# Altium integrated library Lattice FPGA XP.IntLib: 280 symbols (part 38 of 55)
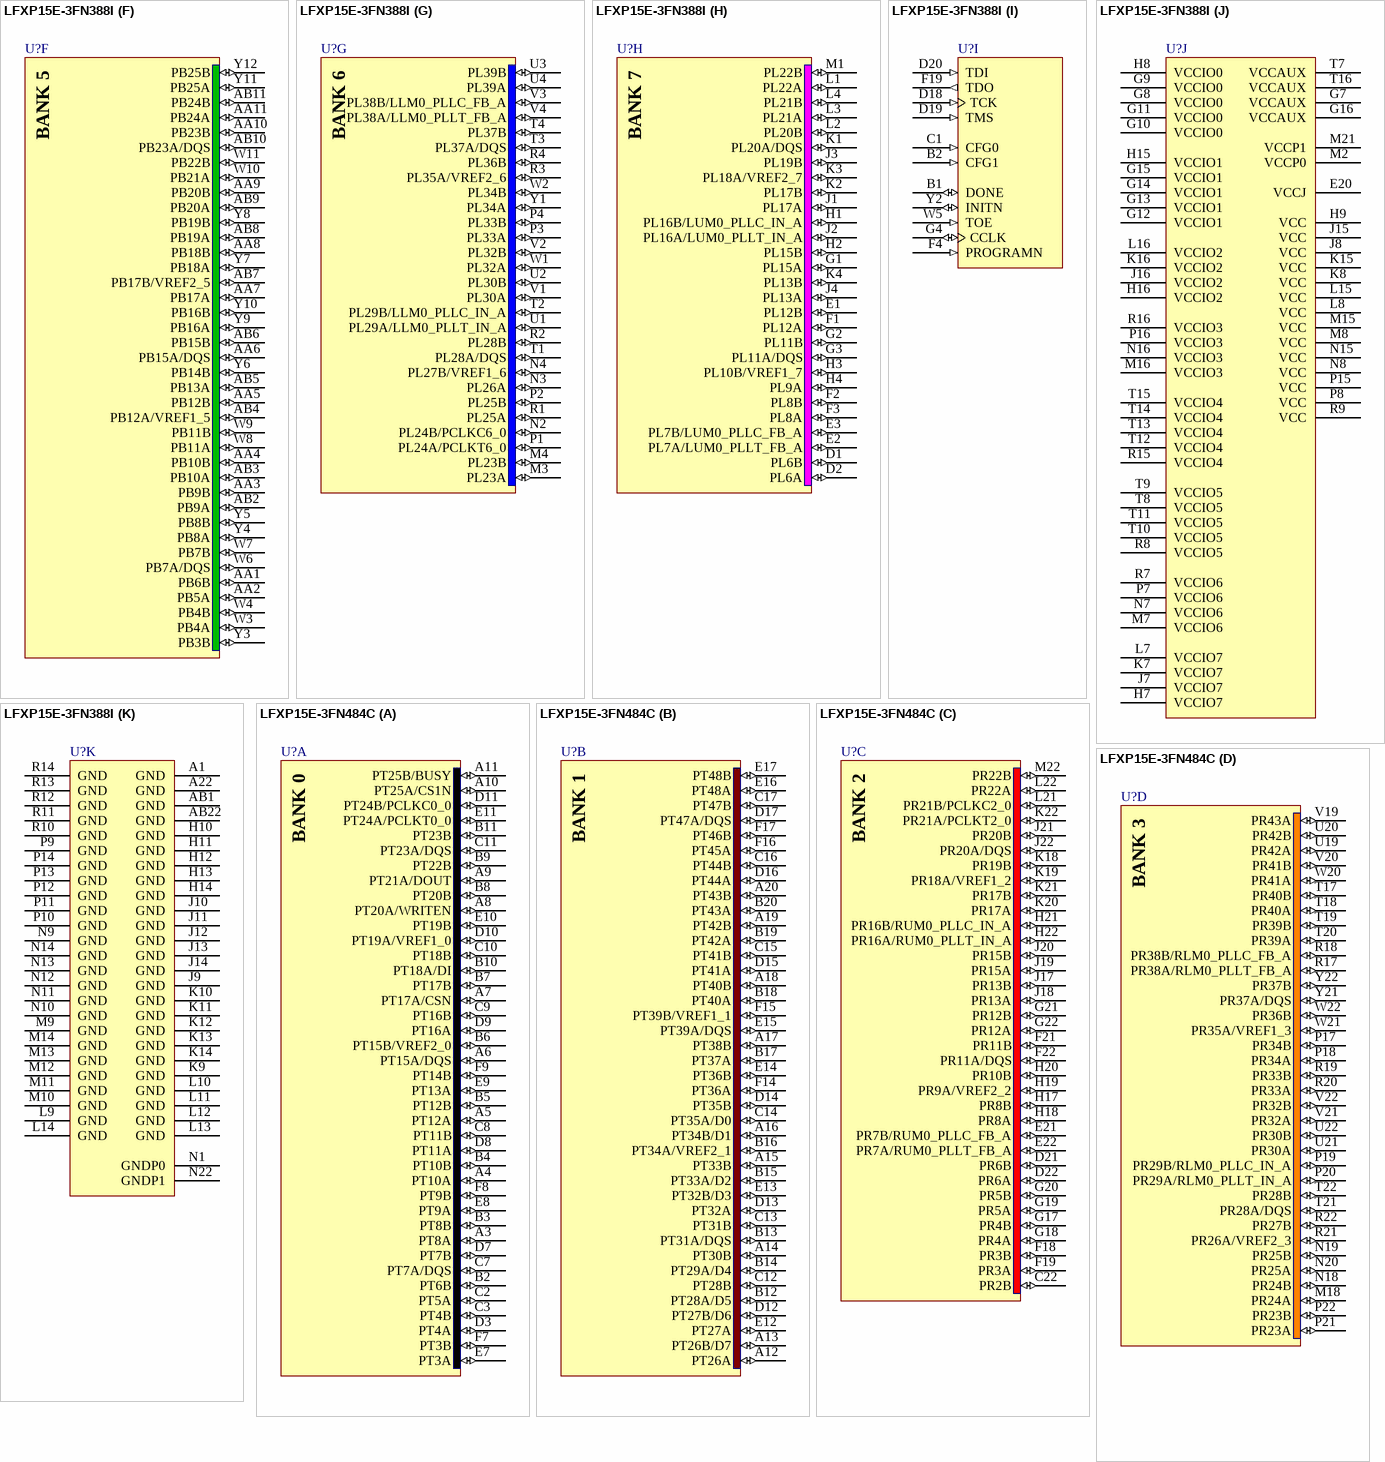
[diagram p371: symbols LFXP15E-3FN388I to LFXP15E-3FN484C]

## LFXP15E-3FN388I
designator U?
XP 1.2V FPGA, 268 I/Os, 15K LUTs, 388-Pin fpBGA, Speed Grade 3, Industrial Grade, Pb-Free; DatasheetVersion: ver05.1, Nov-2007; PackageVersion: ver01.8, Dec-2008; PackageReference: fpBGA388; PackageDescription: 388-Ball Fine Pitch Ball Grid Array (fpBGA388); ComponentLink1Description: Manufacturer URL; ComponentLink1URL: http://www.latticesemi.com/; ComponentLink2Description: Datasheet; ComponentLink2URL: http://www.latticesemi.com/lit/docs/datasheets/fpga/DS1001.pdf; ComponentLink3Description: Package Specification; ComponentLink3URL: http://www.latticesemi.com/lit/docs/package/pkg.pdf
footprint fpBGA388 (BGA, 388-Leads, Body 23x23mm, Pitch 1mm)
part A pins: A2 PT10A (io), A3 PT9B (io), A4 PT12A (io), A5 PT14B (io), A6 PT15B/VREF2_0 (io), A7 PT18A/DI (io), A8 PT19A/VREF1_0 (io), A9 PT20B (io), A10 PT24A/PCLKT0_0 (io), A11 PT24B/PCLKC0_0 (io), B3 PT9A (io), B4 PT10B (io), B5 PT13A (io), B6 PT15A/DQS (io), B7 PT17B (io), B8 PT19B (io), B9 PT23A/DQS (io), B10 PT23B (io), B11 PT25A/CS1N (io), C2 PT7B (io), C3 PT8A (io), C4 PT8B (io), C5 PT12B (io), C6 PT17A/CSN (io), C7 PT18B (io), C8 PT20A/WRITEN (io), C9 PT16A (io), C10 PT16B (io), C11 PT25B/BUSY (io), D3 PT7A/DQS (io), D4 PT4A (io), D5 PT3B (io), D6 PT5A (io), D7 PT6B (io), D8 PT11A (io), D9 PT11B (io), D10 PT21A/DOUT (io), D11 PT22B (io), E4 PT4B (io)
part B pins: A12 PT27A (io), A13 PT28A/D5 (io), A14 PT31A/DQS (io), A15 PT32A (io), A16 PT33A/D2 (io), A17 PT34A/VREF2_1 (io), A18 PT36A (io), A19 PT37A (io), A20 PT39A/DQS (io), A21 PT41A (io), B12 PT26B/D7 (io), B13 PT27B/D6 (io), B14 PT28B (io), B15 PT31B (io), B16 PT32B/D3 (io), B17 PT33B (io), B18 PT34B/D1 (io), B19 PT36B (io), B20 PT38B (io), B21 PT39B/VREF1_1 (io), B22 PT41B (io), C12 PT26A (io), C13 PT35A/D0 (io), C14 PT35B (io), C15 PT45A (io), C16 PT46B (io), C17 PT44B (io), C18 PT44A (io), C19 PT43B (io), C20 PT43A (io), C21 PT42B (io), C22 PT42A (io), D12 PT29A/D4 (io), D13 PT30B (io), D14 PT40A (io), D15 PT40B (io), D16 PT47A/DQS (io), D17 PT47B (io), E19 PT48A (io)
part C pins: D21 PR6A (io), D22 PR6B (io), E21 PR7A/RUM0_PLLT_FB_A (io), E22 PR7B/RUM0_PLLC_FB_A (io), F20 PR10B (io), F21 PR8A (io), F22 PR8B (io), G19 PR12A (io), G20 PR9A/VREF2_2 (io), G21 PR11A/DQS (io), G22 PR11B (io), H19 PR12B (io), H20 PR13A (io), H21 PR16A/RUM0_PLLT_IN_A (io), H22 PR16B/RUM0_PLLC_IN_A (io), J19 PR15A (io), J20 PR13B (io), J21 PR17A (io), J22 PR17B (io), K19 PR15B (io), K20 PR20A/DQS (io), K21 PR21A/PCLKT2_0 (io), K22 PR21B/PCLKC2_0 (io), L19 PR20B (io), L20 PR19B (io), L21 PR18A/VREF1_2 (io), L22 PR22A (io), M22 PR22B (io)
part D pins: M19 PR23A (io), M20 PR23B (io), N19 PR27B (io), N20 PR26A/VREF2_3 (io), N21 PR24A (io), P19 PR33B (io), P20 PR33A (io), P21 PR24B (io), P22 PR25A (io), R19 PR36B (io), R20 PR35A/VREF1_3 (io), R21 PR28B (io), R22 PR25B (io), T19 PR39A (io), T20 PR39B (io), T21 PR29B/RLM0_PLLC_IN_A (io), T22 PR28A/DQS (io), U19 PR38B/RLM0_PLLC_FB_A (io), U20 PR38A/RLM0_PLLT_FB_A (io), U21 PR30B (io), U22 PR29A/RLM0_PLLT_IN_A (io), V19 PR37B (io), V20 PR37A/DQS (io), V21 PR32B (io), V22 PR30A (io), W21 PR34B (io), W22 PR32A (io), Y22 PR34A (io)
part E pins: AA12 PB26B (io), AA13 PB27B/PCLKC4_0 (io), AA14 PB28A (io), AA15 PB31A/DQS (io), AA16 PB32A (io), AA17 PB33B (io), AA18 PB36A/VREF2_4 (io), AA19 PB39A/DQS (io), AA20 PB41B (io), AA21 PB42B (io), AA22 PB43A (io), AB12 PB26A (io), AB13 PB27A/PCLKT4_0 (io), AB14 PB28B (io), AB15 PB31B/VREF1_4 (io), AB16 PB32B (io), AB17 PB35A (io), AB18 PB36B (io), AB19 PB38B (io), AB20 PB41A (io), AB21 PB42A (io), W12 PB29A (io), W13 PB30B (io), W14 PB40A (io), W15 PB40B (io), W16 PB44A (io), W17 PB44B (io), W18 PB47B (io), W19 PB47A/DQS (io), W20 PB48A (io), Y13 PB34A (io), Y14 PB34B (io), Y15 PB45A (io), Y16 PB46B (io), Y17 PB33A (io), Y18 PB35B (io), Y19 PB37A (io), Y20 PB39B (io), Y21 PB43B (io)
part F pins: AA1 PB6B (io), AA2 PB5A (io), AA3 PB9B (io), AA4 PB10B (io), AA5 PB12B (io), AA6 PB15A/DQS (io), AA7 PB17A (io), AA8 PB18B (io), AA9 PB20B (io), AA10 PB23B (io), AA11 PB24A (io), AB2 PB9A (io), AB3 PB10A (io), AB4 PB12A/VREF1_5 (io), AB5 PB13A (io), AB6 PB15B (io), AB7 PB17B/VREF2_5 (io), AB8 PB19A (io), AB9 PB20A (io), AB10 PB23A/DQS (io), AB11 PB24B (io), W3 PB4A (io), W4 PB4B (io), W6 PB7A/DQS (io), W7 PB7B (io), W8 PB11A (io), W9 PB11B (io), W10 PB21A (io), W11 PB22B (io), Y3 PB3B (io), Y4 PB8A (io), Y5 PB8B (io), Y6 PB14B (io), Y7 PB18A (io), Y8 PB19B (io), Y9 PB16A (io), Y10 PB16B (io), Y11 PB25A (io), Y12 PB25B (io)
part G pins: M3 PL23A (io), M4 PL23B (io), N2 PL24B/PCLKC6_0 (io), N3 PL26A (io), N4 PL27B/VREF1_6 (io), P1 PL24A/PCLKT6_0 (io), P2 PL25B (io), P3 PL33A (io), P4 PL33B (io), R1 PL25A (io), R2 PL28B (io), R3 PL35A/VREF2_6 (io), R4 PL36B (io), T1 PL28A/DQS (io), T2 PL29B/LLM0_PLLC_IN_A (io), T3 PL37A/DQS (io), T4 PL37B (io), U1 PL29A/LLM0_PLLT_IN_A (io), U2 PL30B (io), U3 PL39B (io), U4 PL39A (io), V1 PL30A (io), V2 PL32B (io), V3 PL38B/LLM0_PLLC_FB_A (io), V4 PL38A/LLM0_PLLT_FB_A (io), W1 PL32A (io), W2 PL34B (io), Y1 PL34A (io)
part H pins: D1 PL6B (io), D2 PL6A (io), E1 PL12B (io), E2 PL7A/LUM0_PLLT_FB_A (io), E3 PL7B/LUM0_PLLC_FB_A (io), F1 PL12A (io), F2 PL8B (io), F3 PL8A (io), G1 PL15A (io), G2 PL11B (io), G3 PL11A/DQS (io), H1 PL16B/LUM0_PLLC_IN_A (io), H2 PL15B (io), H3 PL10B/VREF1_7 (io), H4 PL9A (io), J1 PL17A (io), J2 PL16A/LUM0_PLLT_IN_A (io), J3 PL19B (io), J4 PL13A (io), K1 PL20A/DQS (io), K2 PL17B (io), K3 PL18A/VREF2_7 (io), K4 PL13B (io), L1 PL22A (io), L2 PL20B (io), L3 PL21A (io), L4 PL21B (io), M1 PL22B (io)
part I pins: B1 DONE (io), B2 CFG1 (in), C1 CFG0 (in), D18 TCK (in), D19 TMS (in), D20 TDI (in), F4 PROGRAMN (in), F19 TDO (out), G4 CCLK (io), W5 TOE (in), Y2 INITN (io)
part J pins: E20 VCCJ (power), G7 VCCAUX (power), G8 VCCIO0 (power), G9 VCCIO0 (power), G10 VCCIO0 (power), G11 VCCIO0 (power), G12 VCCIO1 (power), G13 VCCIO1 (power), G14 VCCIO1 (power), G15 VCCIO1 (power), G16 VCCAUX (power), H7 VCCIO7 (power), H8 VCCIO0 (power), H9 VCC (power), H15 VCCIO1 (power), H16 VCCIO2 (power), J7 VCCIO7 (power), J8 VCC (power), J15 VCC (power), J16 VCCIO2 (power), K7 VCCIO7 (power), K8 VCC (power), K15 VCC (power), K16 VCCIO2 (power), L7 VCCIO7 (power), L8 VCC (power), L15 VCC (power), L16 VCCIO2 (power), M2 VCCP0 (power), M7 VCCIO6 (power), M8 VCC (power), M15 VCC (power), M16 VCCIO3 (power), M21 VCCP1 (power), N7 VCCIO6 (power), N8 VCC (power), N15 VCC (power), N16 VCCIO3 (power), P7 VCCIO6 (power), P8 VCC (power), P15 VCC (power), P16 VCCIO3 (power), R7 VCCIO6 (power), R8 VCCIO5 (power), R9 VCC (power), R15 VCCIO4 (power), R16 VCCIO3 (power), T7 VCCAUX (power), T8 VCCIO5 (power), T9 VCCIO5 (power), T10 VCCIO5 (power), T11 VCCIO5 (power), T12 VCCIO4 (power), T13 VCCIO4 (power), T14 VCCIO4 (power), T15 VCCIO4 (power), T16 VCCAUX (power)
part K pins: A1 GND (power), A22 GND (power), AB1 GND (power), AB22 GND (power), H10 GND (power), H11 GND (power), H12 GND (power), H13 GND (power), H14 GND (power), J9 GND (power), J10 GND (power), J11 GND (power), J12 GND (power), J13 GND (power), J14 GND (power), K9 GND (power), K10 GND (power), K11 GND (power), K12 GND (power), K13 GND (power), K14 GND (power), L9 GND (power), L10 GND (power), L11 GND (power), L12 GND (power), L13 GND (power), L14 GND (power), M9 GND (power), M10 GND (power), M11 GND (power), M12 GND (power), M13 GND (power), M14 GND (power), N1 GNDP0 (power), N9 GND (power), N10 GND (power), N11 GND (power), N12 GND (power), N13 GND (power), N14 GND (power), N22 GNDP1 (power), P9 GND (power), P10 GND (power), P11 GND (power), P12 GND (power), P13 GND (power), P14 GND (power), R10 GND (power), R11 GND (power), R12 GND (power), R13 GND (power), R14 GND (power)
part A text: BANK 0
part B text: BANK 1
part C text: BANK 2
part D text: BANK 3
part E text: BANK 4
part F text: BANK 5
part G text: BANK 6
part H text: BANK 7

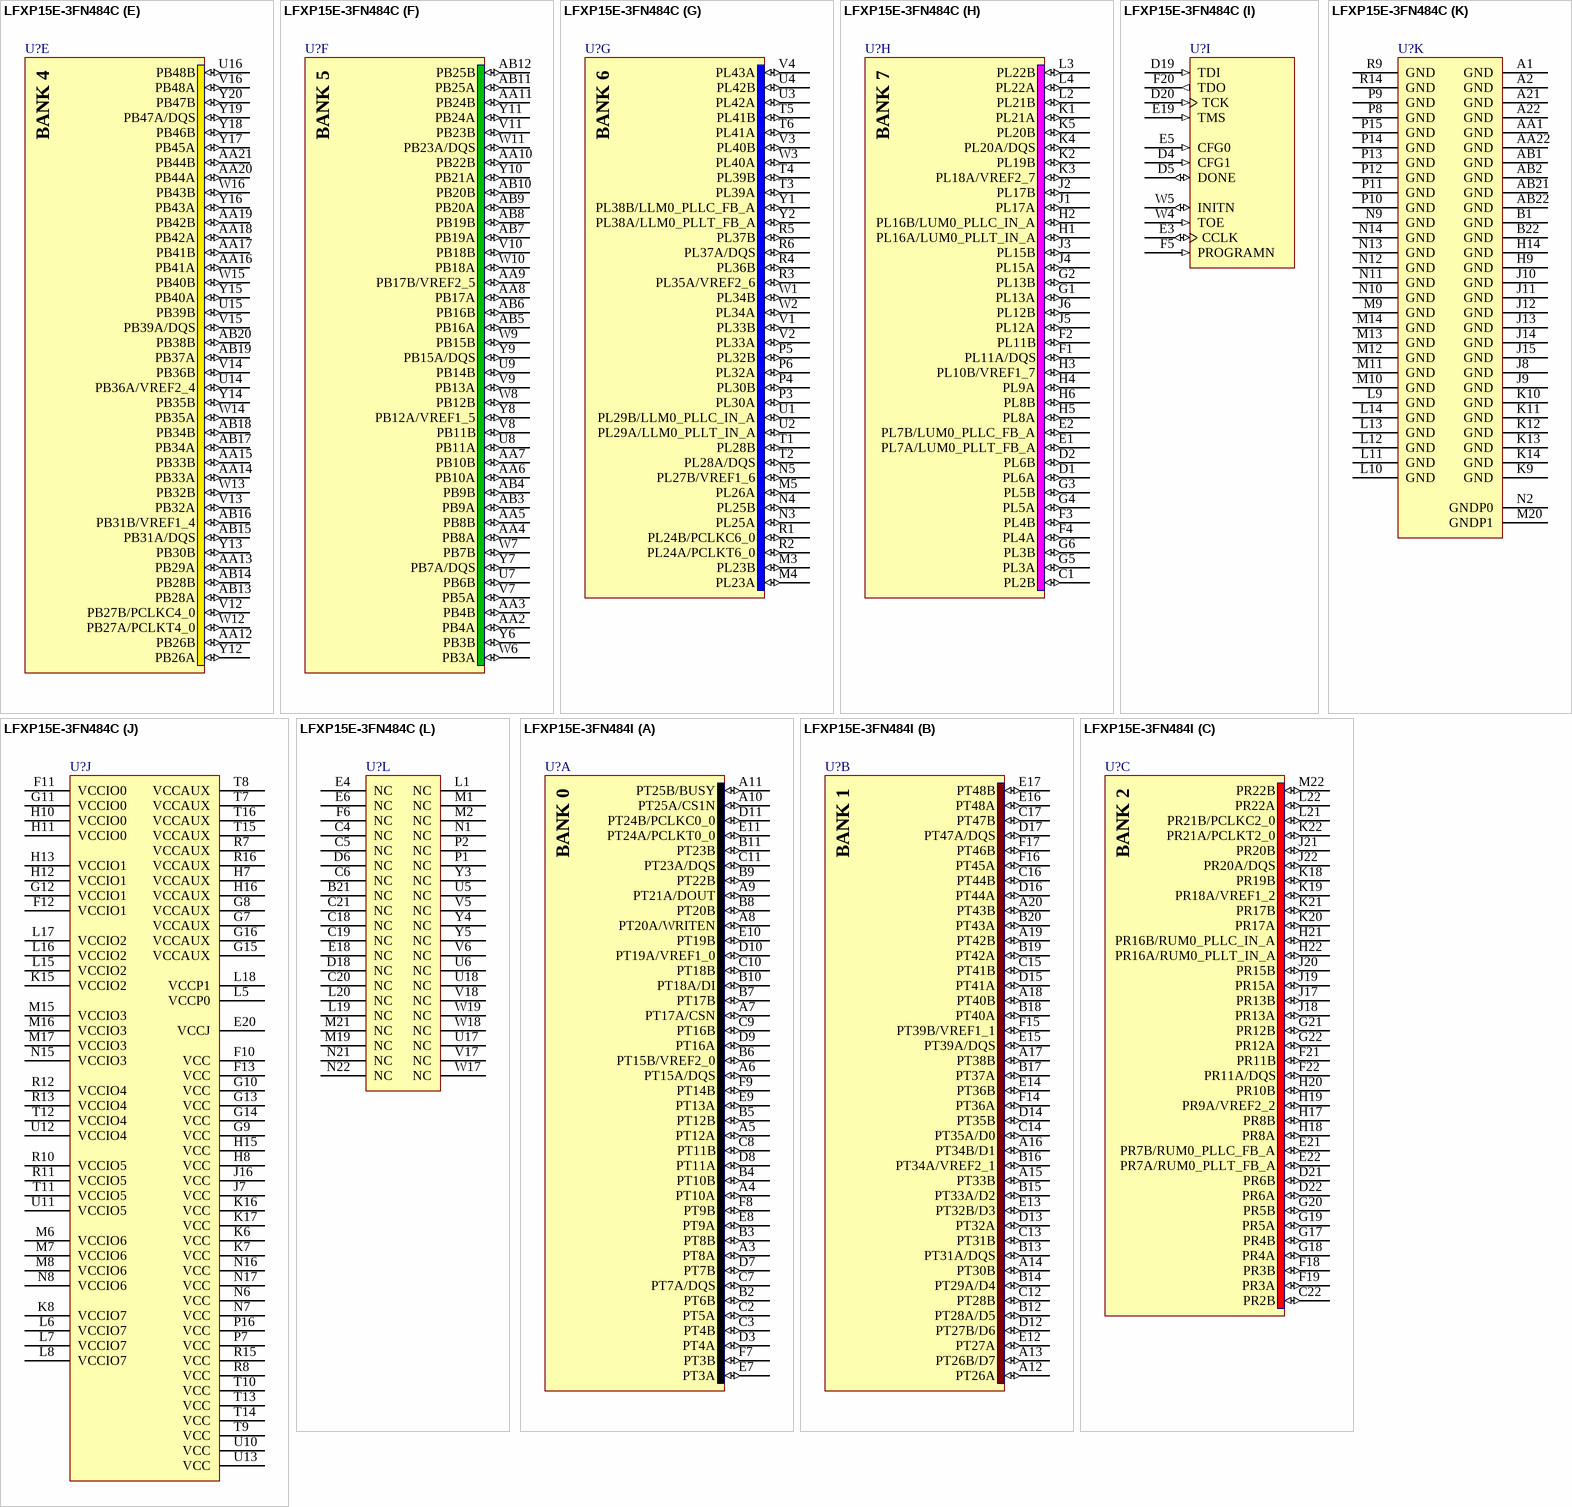
[diagram p154: symbols LFXP15E-3FN484C to LFXP15E-3FN484I]